# Altium footprint library SM_IPC_D_1206.PcbLib: 1 footprints
Each footprint in its own frame and in the unit in brackets; x right, y up, seen from the top. Pads: shape width x height; smd on the part's side, far side on the other; paste and mask are expansions set on the pad; w line width, h text height; cw(c..) or ccw(c..) is an arc to the next point about the centre after c.
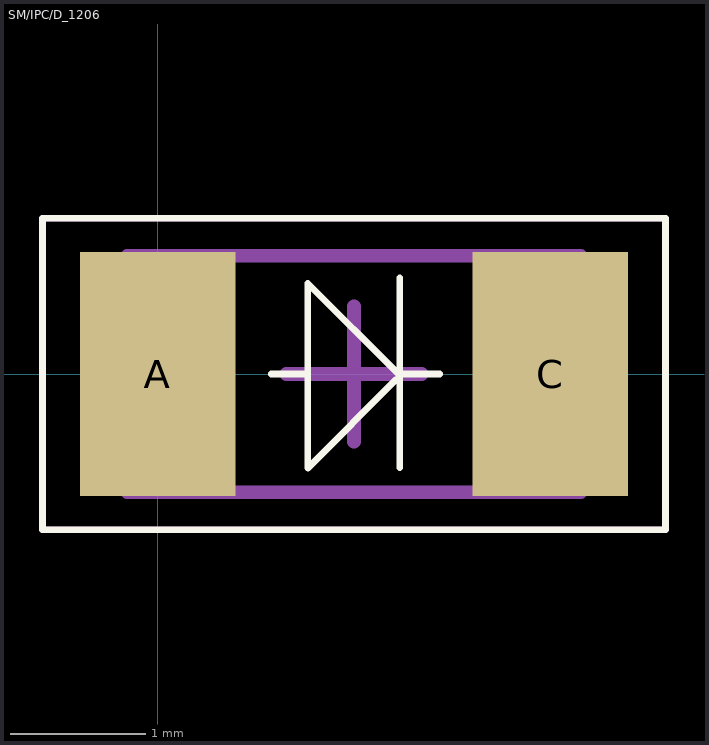
[diagram p0: the footprint, top view; thin cyan lines are the x and y axes]

## SM/IPC/D_1206 [mm]
pads (2):
  rect 1.15x1.8 smd: A(0,0) C(2.9,0)
Top Overlay:
  lines w0.05: 0.838,0 0.902,0 1.029,0 1.092,0 ; 1.108,-0.686 1.108,0.67 1.778,0 2.083,0 ; 1.111,-0.695 1.111,-0.693 1.765,-0.038 ; 1.787,-0.693 1.787,0.711 ; -0.85,-1.15 3.75,-1.15 3.75,1.15 -0.85,1.15 -0.85,-1.15
Mechanical 13:
  lines w0.1: -0.225,-0.875 3.125,-0.875 3.125,0.875 -0.225,0.875 -0.225,-0.875
Mechanical 15:
  lines w0.05: -0.85,-1.15 -0.85,1.15 3.75,1.15 3.75,-1.15 -0.85,-1.15
  lines w0.1: 0.95,0 1.95,0 ; 1.45,-0.5 1.45,0.5
3D body: height 0.75, standoff 0, extent 2.631,-0.874 3.125,0.875
3D body: height 0.75, standoff 0, extent 0.27,-0.874 2.631,0.875
3D body: height 0.75, standoff 0, extent -0.224,-0.874 0.27,0.875